# Altium footprint library 智能马桶综合检测台_数据板V1.0.PcbLib: 27 footprints (part 2 of 2)
Each footprint in its own frame and in the unit in brackets; x right, y up, seen from the top. Pads: shape width x height; smd on the part's side, far side on the other; paste and mask are expansions set on the pad; w line width, h text height; cw(c..) or ccw(c..) is an arc to the next point about the centre after c.
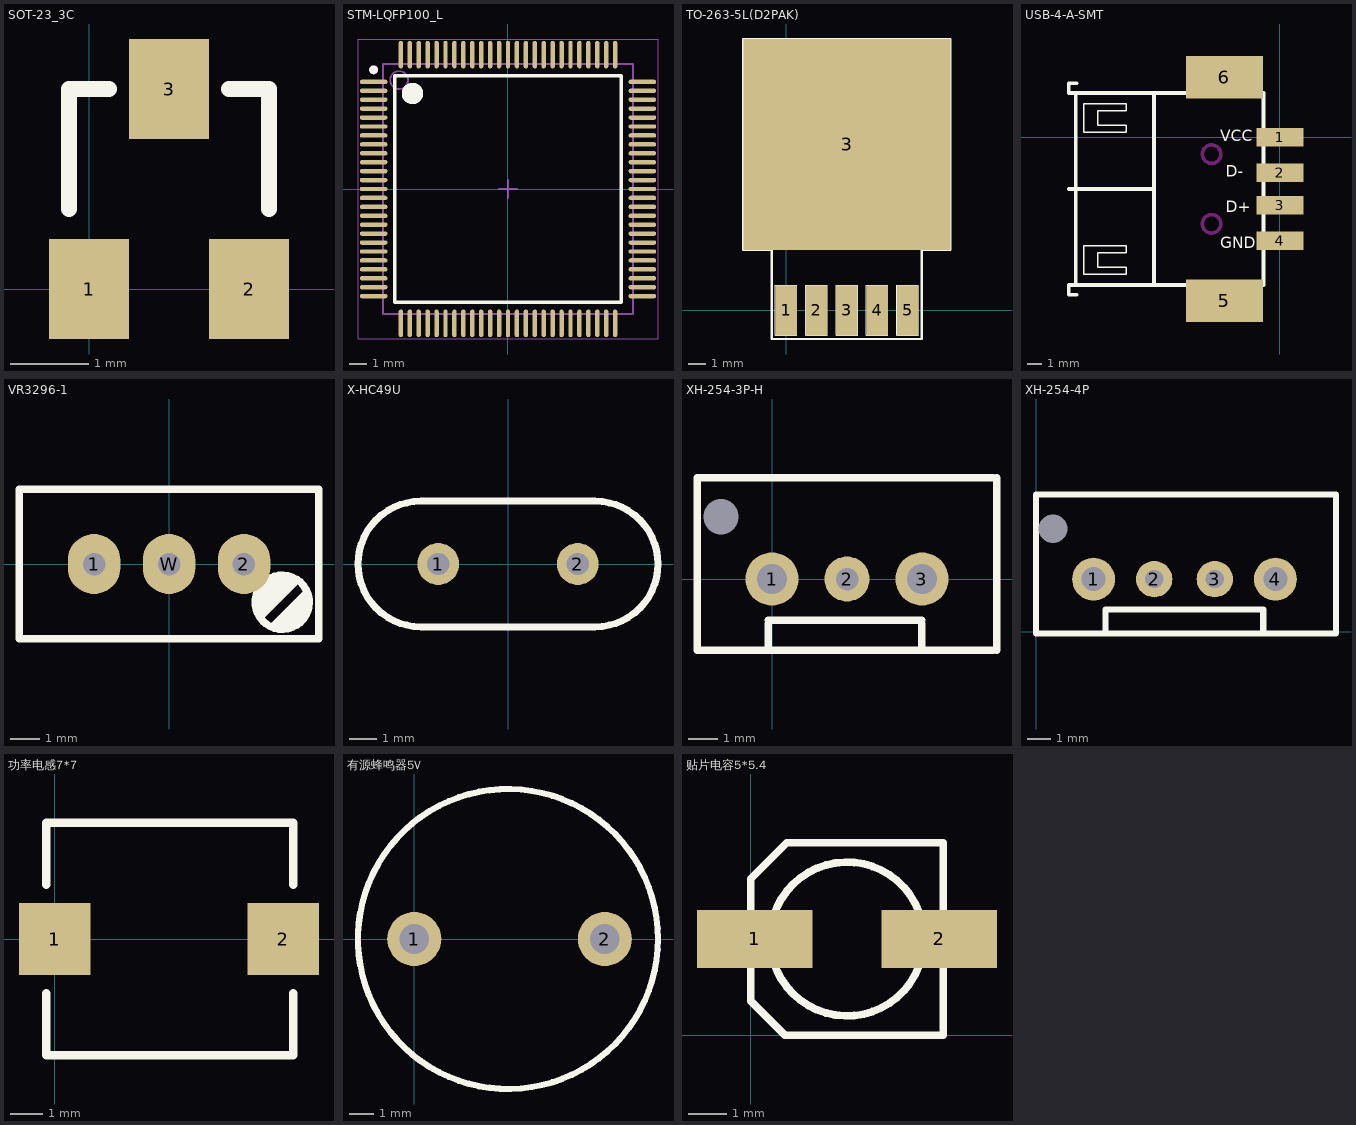
[diagram p1: the footprints below, top view; thin cyan lines are the x and y axes]

## SOT-23_3C [mil]
height 62.99
pads (3):
  rect 40x50 smd: 1(0,0) 2(80,0) 3(40,100)
Top Overlay:
  lines w8: -10,40 -10,100 10,100 ; 70,100 90,100 90,40

## STM-LQFP100_L [mm] "Thin QFP, 100-Leads, Body 14x14mm, Pitch 0.5mm, IPC High Density"
height 1.6
pads (100):
  oval 1.55x0.25 smd: 1(-7.525,6) 2(-7.525,5.5) 3(-7.525,5) 4(-7.525,4.5) 5(-7.525,4) 6(-7.525,3.5) 7(-7.525,3) 8(-7.525,2.5) 9(-7.525,2) 10(-7.525,1.5) 11(-7.525,1) 12(-7.525,0.5) 13(-7.525,0) 14(-7.525,-0.5) 15(-7.525,-1) 16(-7.525,-1.5) 17(-7.525,-2) 18(-7.525,-2.5) 19(-7.525,-3) 20(-7.525,-3.5) 21(-7.525,-4) 22(-7.525,-4.5) 23(-7.525,-5) 24(-7.525,-5.5) 25(-7.525,-6) 51(7.525,-6) 52(7.525,-5.5) 53(7.525,-5) 54(7.525,-4.5) 55(7.525,-4) 56(7.525,-3.5) 57(7.525,-3) 58(7.525,-2.5) 59(7.525,-2) 60(7.525,-1.5) 61(7.525,-1) 62(7.525,-0.5) 63(7.525,0) 64(7.525,0.5) 65(7.525,1) 66(7.525,1.5) 67(7.525,2) 68(7.525,2.5) 69(7.525,3) 70(7.525,3.5) 71(7.525,4) 72(7.525,4.5) 73(7.525,5) 74(7.525,5.5) 75(7.525,6)
  oval 0.25x1.55 smd: 26(-6,-7.525) 27(-5.5,-7.525) 28(-5,-7.525) 29(-4.5,-7.525) 30(-4,-7.525) 31(-3.5,-7.525) 32(-3,-7.525) 33(-2.5,-7.525) 34(-2,-7.525) 35(-1.5,-7.525) 36(-1,-7.525) 37(-0.5,-7.525) 38(0,-7.525) 39(0.5,-7.525) 40(1,-7.525) 41(1.5,-7.525) 42(2,-7.525) 43(2.5,-7.525) 44(3,-7.525) 45(3.5,-7.525) 46(4,-7.525) 47(4.5,-7.525) 48(5,-7.525) 49(5.5,-7.525) 50(6,-7.525) 76(6,7.525) 77(5.5,7.525) 78(5,7.525) 79(4.5,7.525) 80(4,7.525) 81(3.5,7.525) 82(3,7.525) 83(2.5,7.525) 84(2,7.525) 85(1.5,7.525) 86(1,7.525) 87(0.5,7.525) 88(0,7.525) 89(-0.5,7.525) 90(-1,7.525) 91(-1.5,7.525) 92(-2,7.525) 93(-2.5,7.525) 94(-3,7.525) 95(-3.5,7.525) 96(-4,7.525) 97(-4.5,7.525) 98(-5,7.525) 99(-5.5,7.525) 100(-6,7.525)
Top Overlay:
  circle w0.25: c-7.525,6.675 r0.125
  circle w0.6: c-5.35,5.35 r0.3
  lines w0.2: -6.35,-6.35 -6.35,6.35 6.35,6.35 6.35,-6.35 -6.35,-6.35
Mechanical 13:
  circle w0.1: c-6.1,6.1 r0.5
  lines w0.1: -7,-7 -7,7 7,7 7,-7 -7,-7
Mechanical 15:
  lines w0.05: -8.4,-8.4 -8.4,8.4 8.4,8.4 8.4,-8.4 -8.4,-8.4
  lines w0.1: -0.5,0 0.5,0 ; 0,-0.5 0,0.5
3D body: height 1.6, standoff 0.05, extent -7,-7 7,7

## TO-263-5L(D2PAK) [mm]
pads (6):
  rect 1.203x2.803 smd: 1(0,0) 2(1.7,0) 3(3.4,0) 4(5.1,0) 5(6.8,0)
  rect 11.6x11.8 smd: 3(3.412,9.297)
Top Overlay:
  lines w0.025: -0.6,-1.398 0.604,-1.398 ; -0.6,-1.398 -0.6,1.406 ; -0.6,-1.398 0.604,-1.398 ; -0.6,-1.398 -0.6,1.406 ; -0.6,1.406 0.604,1.406 ; -0.6,1.406 0.604,1.406 ; 0.604,-1.398 0.604,1.406 ; 0.604,-1.398 0.604,1.406 ; 1.1,-1.398 2.304,-1.398 ; 1.1,-1.398 1.1,1.406 ; 1.1,-1.398 2.304,-1.398 ; 1.1,-1.398 1.1,1.406 ; 1.1,1.406 2.304,1.406 ; 1.1,1.406 2.304,1.406 ; 2.304,-1.398 2.304,1.406 ; 2.304,-1.398 2.304,1.406 ; 2.8,-1.398 4.004,-1.398 ; 2.8,-1.398 2.8,1.406 ; 2.8,-1.398 4.004,-1.398 ; 2.8,-1.398 2.8,1.406 ; 2.8,1.406 4.004,1.406 ; 2.8,1.406 4.004,1.406 ; 4.004,-1.398 4.004,1.406 ; 4.004,-1.398 4.004,1.406 ; 4.5,-1.398 5.704,-1.398 ; 4.5,-1.398 4.5,1.406 ; 4.5,-1.398 5.704,-1.398 ; 4.5,-1.398 4.5,1.406 ; 4.5,1.406 5.704,1.406 ; 4.5,1.406 5.704,1.406 ; 5.704,-1.398 5.704,1.406 ; 5.704,-1.398 5.704,1.406 ; 6.2,-1.398 7.404,-1.398 ; 6.2,-1.398 6.2,1.406 ; 6.2,-1.398 7.404,-1.398 ; 6.2,-1.398 6.2,1.406 ; 6.2,1.406 7.404,1.406 ; 6.2,1.406 7.404,1.406 ; 7.404,-1.398 7.404,1.406 ; 7.404,-1.398 7.404,1.406
  lines w0.127: -0.798,15.204 -2.398,15.204 ; -2.398,15.204 9.202,15.204 9.202,3.404 7.602,3.404 7.602,-1.596 -0.798,-1.596 -0.798,3.404 -2.398,3.404 -2.398,15.204
3D body: height 4.87, standoff 0, extent -1.651,-0.842 8.509,13.388

## USB-4-A-SMT [mm]
height 1.6
pads (6):
  rect 3.3x1.3 smd: 1(0,0) 2(0,-2.5) 3(0,-4.8) 4(0,-7.3)
  rect 5.4x3 smd: 5(-3.9,-11.5) 6(-3.9,4.2)
Top Overlay:
  lines w0.1: -13.8,-9.65 -10.8,-9.65 -10.8,-9.15 -12.8,-9.15 -12.8,-8.15 -10.8,-8.15 -10.8,-7.65 -13.8,-7.65 -13.8,-8.15 -13.8,-9.65 ; -13.8,0.35 -10.8,0.35 -10.8,0.85 -12.8,0.85 -12.8,1.85 -10.8,1.85 -10.8,2.35 -13.8,2.35 -13.8,1.85 -13.8,0.35
  lines w0.254: -14.85,-3.65 -8.85,-3.65 ; -14.35,-10.4 -14.35,3.1 ; -14.3,-11.1 -14.85,-11.1 -14.85,-10.4 -1.15,-10.4 -1.15,3.1 -14.85,3.1 -14.85,3.8 -14.3,3.8 ; -8.85,-10.4 -8.85,3.1
  text "VCC" at -4.2,-0.3 h0.8
  text "GND" at -4.2,-7.8 h0.8
  text "D-" at -3.8,-2.8 h0.8
  text "D+" at -3.8,-5.3 h0.8
Bottom Overlay:
  lines w0.254: -14.35,-10.4 -14.35,3.1 ; -14.35,-3.65 -8.85,-3.65 ; -14.3,-11.1 -14.85,-11.1 -14.85,-10.4 -1.15,-10.4 -1.15,3.1 -14.85,3.1 -14.85,3.8 -14.3,3.8 ; -13.8,-9.65 -13.8,-7.65 -10.8,-7.65 -10.8,-8.15 -12.8,-8.15 -12.8,-9.15 -10.8,-9.15 -10.8,-9.65 -13.8,-9.65 ; -13.8,0.35 -13.8,2.35 -10.8,2.35 -10.8,1.85 -12.8,1.85 -12.8,0.85 -10.8,0.85 -10.8,0.35 -13.8,0.35
Keep-Out Layer:
  circle w0.254: c-4.8,-6.1 r0.65
  circle w0.254: c-4.8,-1.2 r0.65

## VR3296-1 [mil]
pads (3):
  oval 70x80 hole 30: 1(-100,0) 2(100,0) W(0,0)
Top Overlay:
  circle w10: c151,-51 r36.06
  lines w10: 157.76,-74.24 164.24,-74.24 171,-81 ; 171,-21 151,-41 121,-71 121,-61 161,-21 141,-21 ; 172.88,-79.12 171,-81 ; 181,-41 141,-81 151,-81 ; 131,-31 121,-41 121,-51 141,-31 ; 131,-31 141,-21 ; 131,-31 141,-31 ; 141,-31 141,-21 ; 141,-31 151,-31 141,-21 ; 151,-81 171,-81 ; 151,-81 166.82,-65.18 172.88,-65.18 187.06,-51 187.06,-47.06 172.88,-61.23 170.77,-61.23 171,-61.47 171,-81 ; -200,-100 0,-100 200,-100 200,100 -200,100 -200,-100

## X-HC49U [mil]
height 104.33
pads (2):
  round 60 hole 32: 1(-100,0) 2(100,0)
Top Overlay:
  lines w10: -125,-90 cw(c-125,0) -125,90 125,90 cw(c125,0) 125,-90 -125,-90

## XH-254-3P-H [mm]
height 1.6
pads (4):
  round 0 hole 1.2: 0(-1.727,2.108)
  round 1.8 hole 1: 1(0,0) 3(5.08,0)
  round 1.524 hole 0.762: 2(2.54,0)
Top Overlay:
  lines w0.254: -0.127,-2.413 -0.127,-1.524 ; -0.127,-1.397 5.08,-1.397 ; 5.08,-2.286 5.08,-1.524 ; 7.493,-2.413 -2.54,-2.413 -2.54,3.429 7.493,3.429 ; 7.62,-2.413 7.62,3.429

## XH-254-4P [mil]
height 62.99
pads (5):
  round 0 hole 47.24: 0(28,170)
  round 70.87 hole 39.37: 1(95,87) 4(395,87)
  round 60 hole 30: 2(195,87) 3(295,87)
Top Overlay:
  lines w10: 115,2 115,37 375,37 375,2 ; 495,-3 495,227 ; 495,-3 0,-3 0,227 495,227 ; 495,-3 495,227

## 功率电感7*7 [mm]
pads (2):
  rect 2.2x2.2 smd: 1(0,0) 2(7,0)
Top Overlay:
  lines w0.254: -0.265,-3.566 -0.265,-1.666 ; -0.265,1.666 -0.265,3.566 7.235,3.566 ; -0.193,-3.566 7.307,-3.566 7.307,-1.666 ; 7.307,1.666 7.307,3.566

## 有源蜂鸣器5V [mm]
height 2.65
pads (2):
  round 2.2 hole 1.2: 1(0,0) 2(7.747,0)
Top Overlay:
  circle w0.254: c3.81,0 r6.097

## 贴片电容5*5.4 [mm]
pads (2):
  rect 3x1.5 smd: 1(0.1,2.5) 2(4.9,2.5)
Top Overlay:
  circle w0.2: c2.5,2.5 r2
  lines w0.2: 4.953,0 0.889,0 0,0.889 0,4.064 0.936,5 5,5 5,0